# Altium footprint library MF_LEDs.PCBLIB: 4 footprints
Each footprint in its own frame and in the unit in brackets; x right, y up, seen from the top. Pads: shape width x height; smd on the part's side, far side on the other; paste and mask are expansions set on the pad; w line width, h text height; cw(c..) or ccw(c..) is an arc to the next point about the centre after c.
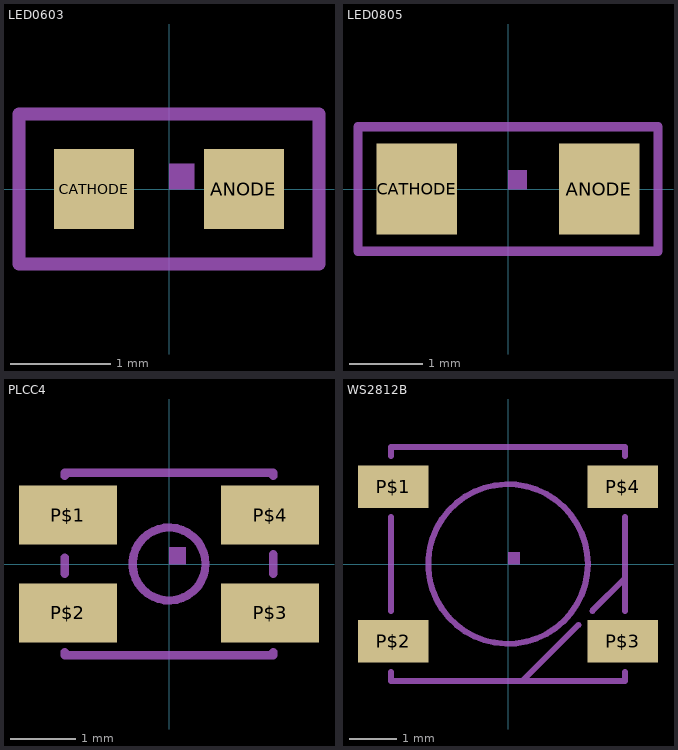
[diagram p0: the footprints below, top view; thin cyan lines are the x and y axes]

## LED0603 [mil]
pads (2):
  rect 31.5x31.5 smd: ANODE(29.53,0) CATHODE(-29.53,0)
Mechanical 22:
  region: 0,0 10,0 10,10 0,10
  region: 0,0 10,0 10,10 0,10
  lines w5: -59.06,-29.53 -59.06,29.53 59.06,29.53 59.06,-29.53 -59.06,-29.53

## LED0805 [mm]
pads (2):
  rect 1.1x1.25 smd: ANODE(1.25,0) CATHODE(-1.25,0)
Mechanical 22:
  region: 0,0 0.254,0 0.254,0.254 0,0.254
  region: 0,0 0.254,0 0.254,0.254 0,0.254
  lines w0.127: -2.05,-0.85 -2.05,0.85 2.05,0.85 2.05,-0.85 -2.05,-0.85

## PLCC4 [mm]
pads (4):
  rect 1.5x0.9 smd: P$1(-1.55,0.75) P$2(-1.55,-0.75) P$3(1.55,-0.75) P$4(1.55,0.75)
Mechanical 22:
  circle w0.127: c0,0 r0.559
  region: 0,0 0.254,0 0.254,0.254 0,0.254
  lines w0.127: -1.6,-1.35 -1.6,-1.4 1.6,-1.4 1.6,-1.35 ; -1.6,-0.15 -1.6,0.1 ; -1.6,1.35 -1.6,1.4 1.6,1.4 1.6,1.35 ; 1.6,-0.15 1.6,0.15

## WS2812B [mm]
pads (4):
  rect 1.5x0.9 smd: P$1(-2.45,1.65) P$2(-2.45,-1.65) P$3(2.45,-1.65) P$4(2.45,1.65)
Mechanical 22:
  circle w0.127: c0,0 r1.703
  region: 0,0 0.254,0 0.254,0.254 0,0.254
  lines w0.127: -2.5,-2.3 -2.5,-2.5 0.3,-2.5 ; -2.5,-1 -2.5,1 ; -2.5,2.3 -2.5,2.5 2.5,2.5 2.5,2.3 ; 1.5,-1.3 0.3,-2.5 ; 1.8,-1 2.5,-0.3 ; 2.5,-2.3 2.5,-2.5 0.3,-2.5 ; 2.5,-1 2.5,-0.3 ; 2.5,1 2.5,-0.3